# Altium schematic symbol library LED 7S SMD.SchLib: 1 symbol
Pins are listed as number, name and electrical type; pins without a type are passive.

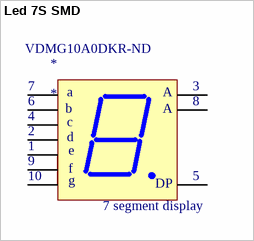
[diagram p0: symbol Led 7S SMD]

## Led 7S SMD
designator *  Supplier Part Number 1: VDMG10A0DKR-ND
VDMG10 Series Green 7-Segment 572 nm SMT Display 10 mm Common Anode; Manufacturer: Vishay Semiconductors; Manufacturer Part Number: VDMG10A0; Wavelength: 572nm; Forward Current: 20mA; Forward Voltage: 2V; Power Consumption: 70mW; Number of Characters: 1; Luminous Intensity: 0.4mcd; Viewing Area (height): 10mm; Supplier 1: Digi-Key; RoHS: Yes; Category: LED Displays; Pricing 1: 1=1.55000, 10=1.38200, 100=1.07760 (USD); Case/Package: SMD/SMT; Number of Pins: 10; Color: Green; Min Operating Temperature: -35°C; Max Operating Temperature: 105°C; Illumination Color: Green; Element Configuration: Common Anode; Packaging: Tape and Reel; Package Quantity: 1; Max Power Dissipation: 70mW; Test Current: 20mA; Dominant Wavelength: 572nm; Width: 0.386inch; Height: 0.512inch; Radiation Hardening: No; REACH SVHC: Unknown; Lead Free: Lead Free; RoHS Compliant: Yes; ComponentLink1URL: https://datasheet.ciiva.com/23867/vdmx10x0-23867376.pdf?src-supplier=Newark; ComponentLink1Description: https://datasheet.ciiva.com/23867/vdmx10x0-23867376.pdf?src-supplier=Newark; ComponentLink2URL: https://datasheet.ciiva.com/24075/vdmx10x0-272413-24075313.pdf?src-supplier=Mouser; ComponentLink2Description: https://datasheet.ciiva.com/24075/vdmx10x0-272413-24075313.pdf?src-supplier=Mouser; ComponentLink3URL: https://datasheet.ciiva.com/23867/1809851-23867367.pdf?src-supplier=Newark; ComponentLink3Description: https://datasheet.ciiva.com/23867/1809851-23867367.pdf?src-supplier=Newark; ComponentLink4URL: https://datasheet.ciiva.com/29566/vdmx10x0-29566054.pdf?src-supplier=Digi-Key; ComponentLink4Description: https://datasheet.ciiva.com/29566/vdmx10x0-29566054.pdf?src-supplier=Digi-Key; ComponentLink5URL: https://datasheet.ciiva.com/29566/vdmx10x0-29566055.pdf?src-supplier=Digi-Key; ComponentLink5Description: https://datasheet.ciiva.com/29566/vdmx10x0-29566055.pdf?src-supplier=Digi-Key; ComponentLink6URL: https://datasheet.ciiva.com/24208/vdmx10x0-24208888.pdf?src-supplier=Future+Electronics; ComponentLink6Description: https://datasheet.ciiva.com/24208/vdmx10x0-24208888.pdf?src-supplier=Future+Electronics; ComponentLink7URL: https://datasheet.ciiva.com/29566/vdmx10x0-29566056.pdf?src-supplier=Digi-Key; ComponentLink7Description: https://datasheet.ciiva.com/29566/vdmx10x0-29566056.pdf?src-supplier=Digi-Key; ComponentLink8URL: https://datasheet.ciiva.com/30017/vdmx10x0-30017276.pdf?src-supplier=Avnet; ComponentLink8Description: https://datasheet.ciiva.com/30017/vdmx10x0-30017276.pdf?src-supplier=Avnet; ComponentLink9URL: https://datasheet.ciiva.com/22726/1913356-22726255.pdf?src-supplier=Element14; ComponentLink9Description: https://datasheet.ciiva.com/22726/1913356-22726255.pdf?src-supplier=Element14
footprint DISPLAY_VDMG10A0
pins: ?1, ?2, ?3, ?4, ?5, ?6, ?7, ?8, ?9, ?10
text: 7; 3; a; A; 6; 8; b; 4; c; 2; d; e; 9; f; 5; g; DP; 7 segment display